# Altium schematic symbol library DS3231SN.Schlib: 1 symbol
Pins are listed as number, name and electrical type; pins without a type are passive.

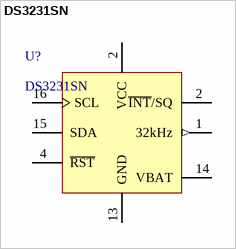
[diagram p0: symbol DS3231SN]

## DS3231SN
designator U?
IC RTC W/TCXO 16-SOIC
pins: 1 32kHz (out), 2 ~{INT}/SQ, 2 VCC (power), 4 ~{RST}, 13 GND (power), 14 VBAT (power), 15 SDA, 16 SCL